# Altium integrated library Integrated_Library1.IntLib: 1 symbol
Pins are listed as number, name and electrical type; pins without a type are passive.

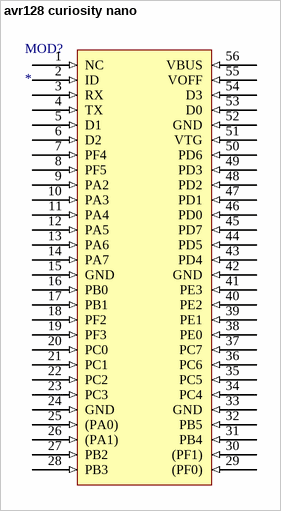
[diagram p0: symbol avr128 curiosity nano]

## avr128 curiosity nano
designator MOD?
footprint avr128 curiosity nano
pins: 1 NC (in), 2 ID (in), 3 RX (in), 4 TX (in), 5 D1 (in), 6 D2 (in), 7 PF4 (in), 8 PF5 (in), 9 PA2 (in), 10 PA3 (in), 11 PA4 (in), 12 PA5 (in), 13 PA6 (in), 14 PA7 (in), 15 GND (in), 16 PB0 (in), 17 PB1 (in), 18 PF2 (in), 19 PF3 (in), 20 PC0 (in), 21 PC1 (in), 22 PC2 (in), 23 PC3 (in), 24 GND (in), 25 (PA0) (in), 26 (PA1) (in), 27 PB2 (in), 28 PB3 (in), 29 (PF0) (in), 30 (PF1) (in), 31 PB4 (in), 32 PB5 (in), 33 GND (in), 34 PC4 (in), 35 PC5 (in), 36 PC6 (in), 37 PC7 (in), 38 PE0 (in), 39 PE1 (in), 40 PE2 (in), 41 PE3 (in), 42 GND (in), 43 PD4 (in), 44 PD5 (in), 45 PD7 (in), 46 PD0 (in), 47 PD1 (in), 48 PD2 (in), 49 PD3 (in), 50 PD6 (in), 51 VTG (in), 52 GND (in), 53 D0 (in), 54 D3 (in), 55 VOFF (in), 56 VBUS (in)